# EAGLE library part 62002821821 (library Wurth_Elektronik_Electromechanic_Board_to_Board_Connectors_rev16a)
WR-PHD 2.00mm Dual Socket Header, 28 Pins=>Code : Con_BTB_SHD_2.00_2_62002821821 <http://katalog.we-online.de/media/thumbs2/eican/thb_Con_BTB_SHD_2.00_2_6200xx21821_pf2.jpg> Details see: http://katalog.we-online.de/en/em/620_0xx_218_21 Created 2014-06-03, Karrer Zheng 2014 (C) Würth Elektronik
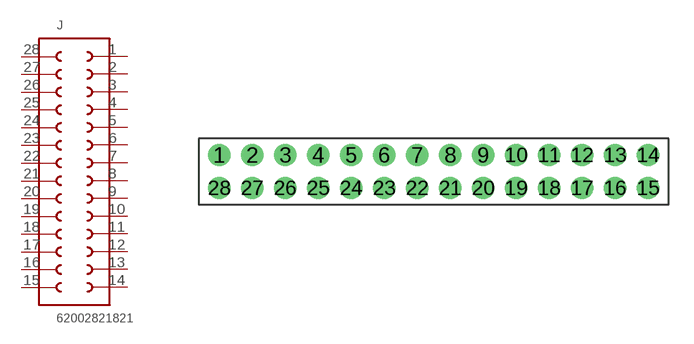
[diagram p262: symbol with the pads of 62002821821; footprint 62002821821]

Designator prefix J

## 62002821821  [62002821821]
1  1  pas
2  2  pas
3  3  pas
4  4  pas
5  5  pas
6  6  pas
7  7  pas
8  8  pas
9  9  pas
10  10  pas
11  11  pas
12  12  pas
13  13  pas
14  14  pas
15  15  pas
16  16  pas
17  17  pas
18  18  pas
19  19  pas
20  20  pas
21  21  pas
22  22  pas
23  23  pas
24  24  pas
25  25  pas
26  26  pas
27  27  pas
28  28  pas

## Footprint 62002821821 (pad centres in mm)
WR-PHD 2.00mm Dual Socket Header, 28 Pins
drill 0.85: 1 -13,1; 2 -11,1; 3 -9,1; 4 -7,1; 5 -5,1; 6 -3,1; 7 -1,1; 8 1,1; 9 3,1; 10 5,1; 11 7,1; 12 9,1; 13 11,1; 14 13,1; 15 13,-1; 16 11,-1; 17 9,-1; 18 7,-1; 19 5,-1; 20 3,-1; 21 1,-1; 22 -1,-1; 23 -3,-1; 24 -5,-1; 25 -7,-1; 26 -9,-1; 27 -11,-1; 28 -13,-1